# EAGLE library part ATMEGA1280 (library avr)
MICROCONTROLLER 128 kBytes FLASH 8 kBytes SRAM 4 kBytes EEPROM QUAD USART 16-channel 10 bit ADC
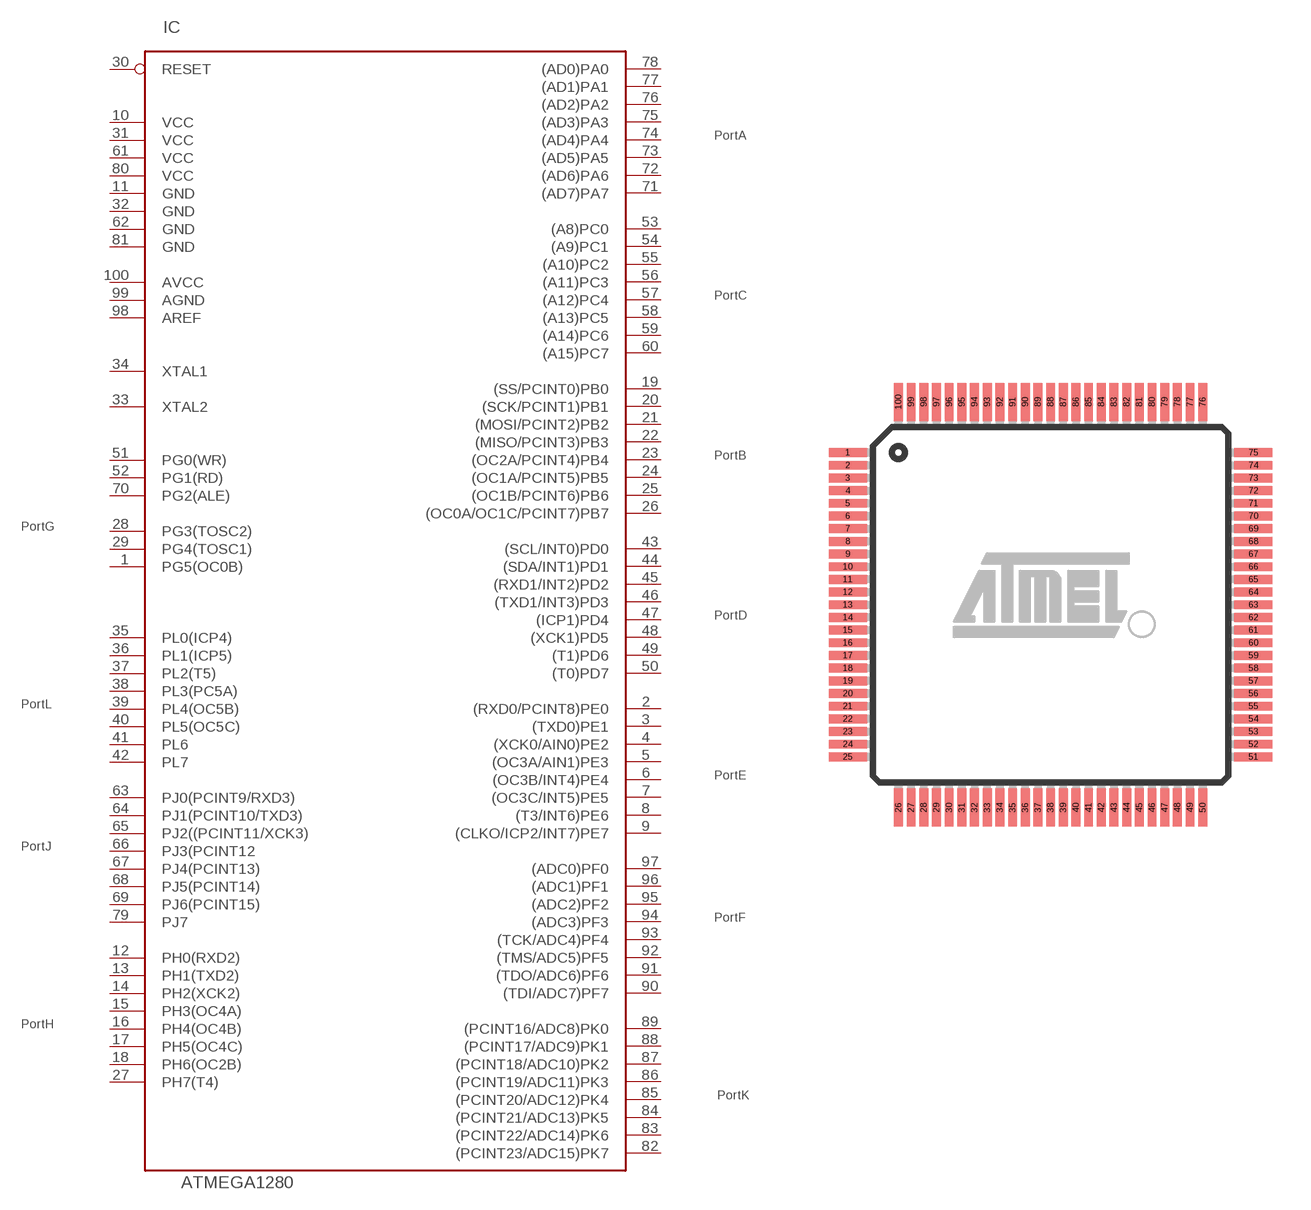
[diagram p76: symbol with the pads of TQFP100; footprint TQFP100]

Designator prefix IC

## ATMEGA1280-16A, ATMEGA1280V-8A  [TQFP100]
1  PG5(OC0B)
2  (RXD0/PCINT8)PE0
3  (TXD0)PE1
4  (XCK0/AIN0)PE2
5  (OC3A/AIN1)PE3
6  (OC3B/INT4)PE4
7  (OC3C/INT5)PE5
8  (T3/INT6)PE6
9  (CLKO/ICP2/INT7)PE7
10  VCC  pwr
11  GND  pwr
12  PH0(RXD2)
13  PH1(TXD2)
14  PH2(XCK2)
15  PH3(OC4A)
16  PH4(OC4B)
17  PH5(OC4C)
18  PH6(OC2B)
19  (SS/PCINT0)PB0
20  (SCK/PCINT1)PB1
21  (MOSI/PCINT2)PB2
22  (MISO/PCINT3)PB3
23  (OC2A/PCINT4)PB4
24  (OC1A/PCINT5)PB5
25  (OC1B/PCINT6)PB6
26  (OC0A/OC1C/PCINT7)PB7
27  PH7(T4)
28  PG3(TOSC2)
29  PG4(TOSC1)
30  RESET  in
31  VCC  pwr
32  GND  pwr
33  XTAL2  in
34  XTAL1  in
35  PL0(ICP4)
36  PL1(ICP5)
37  PL2(T5)
38  PL3(PC5A)
39  PL4(OC5B)
40  PL5(OC5C)
41  PL6
42  PL7
43  (SCL/INT0)PD0
44  (SDA/INT1)PD1
45  (RXD1/INT2)PD2
46  (TXD1/INT3)PD3
47  (ICP1)PD4
48  (XCK1)PD5
49  (T1)PD6
50  (T0)PD7
51  PG0(WR)
52  PG1(RD)
53  (A8)PC0
54  (A9)PC1
55  (A10)PC2
56  (A11)PC3
57  (A12)PC4
58  (A13)PC5
59  (A14)PC6
60  (A15)PC7
61  VCC  pwr
62  GND  pwr
63  PJ0(PCINT9/RXD3)
64  PJ1(PCINT10/TXD3)
65  PJ2((PCINT11/XCK3)
66  PJ3(PCINT12
67  PJ4(PCINT13)
68  PJ5(PCINT14)
69  PJ6(PCINT15)
70  PG2(ALE)
71  (AD7)PA7
72  (AD6)PA6
73  (AD5)PA5
74  (AD4)PA4
75  (AD3)PA3
76  (AD2)PA2
77  (AD1)PA1
78  (AD0)PA0
79  PJ7
80  VCC  pwr
81  GND  pwr
82  (PCINT23/ADC15)PK7
83  (PCINT22/ADC14)PK6
84  (PCINT21/ADC13)PK5
85  (PCINT20/ADC12)PK4
86  (PCINT19/ADC11)PK3
87  (PCINT18/ADC10)PK2
88  (PCINT17/ADC9)PK1
89  (PCINT16/ADC8)PK0
90  (TDI/ADC7)PF7
91  (TDO/ADC6)PF6
92  (TMS/ADC5)PF5
93  (TCK/ADC4)PF4
94  (ADC3)PF3
95  (ADC2)PF2
96  (ADC1)PF1
97  (ADC0)PF0
98  AREF  pwr
99  AGND  pwr
100  AVCC  pwr

## Footprint TQFP100 (pad centres in mm)
100-lead Thin Quad Flat Pack Package Outline
smd 1.5 x 0.35: 1 -8,6; 2 -8,5.5; 3 -8,5; 4 -8,4.5; 5 -8,4; 6 -8,3.5; 7 -8,3; 8 -8,2.5; 9 -8,2; 10 -8,1.5; 11 -8,1; 12 -8,0.5; 13 -8,0; 14 -8,-0.5; 15 -8,-1; 16 -8,-1.5; 17 -8,-2; 18 -8,-2.5; 19 -8,-3; 20 -8,-3.5; 21 -8,-4; 22 -8,-4.5; 23 -8,-5; 24 -8,-5.5; 25 -8,-6; 51 8,-6; 52 8,-5.5; 53 8,-5; 54 8,-4.5; 55 8,-4; 56 8,-3.5; 57 8,-3; 58 8,-2.5; 59 8,-2; 60 8,-1.5; 61 8,-1; 62 8,-0.5; 63 8,0; 64 8,0.5; 65 8,1; 66 8,1.5; 67 8,2; 68 8,2.5; 69 8,3; 70 8,3.5; 71 8,4; 72 8,4.5; 73 8,5; 74 8,5.5; 75 8,6
smd 0.35 x 1.5: 26 -6,-8; 27 -5.5,-8; 28 -5,-8; 29 -4.5,-8; 30 -4,-8; 31 -3.5,-8; 32 -3,-8; 33 -2.5,-8; 34 -2,-8; 35 -1.5,-8; 36 -1,-8; 37 -0.5,-8; 38 0,-8; 39 0.5,-8; 40 1,-8; 41 1.5,-8; 42 2,-8; 43 2.5,-8; 44 3,-8; 45 3.5,-8; 46 4,-8; 47 4.5,-8; 48 5,-8; 49 5.5,-8; 50 6,-8; 76 6,8; 77 5.5,8; 78 5,8; 79 4.5,8; 80 4,8; 81 3.5,8; 82 3,8; 83 2.5,8; 84 2,8; 85 1.5,8; 86 1,8; 87 0.5,8; 88 0,8; 89 -0.5,8; 90 -1,8; 91 -1.5,8; 92 -2,8; 93 -2.5,8; 94 -3,8; 95 -3.5,8; 96 -4,8; 97 -4.5,8; 98 -5,8; 99 -5.5,8; 100 -6,8